# Altium schematic symbol library Schlib2.SchLib: 1 symbol
Pins are listed as number, name and electrical type; pins without a type are passive.

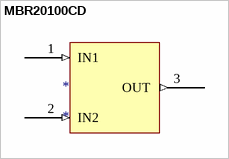
[diagram p0: symbol MBR20100CD]

## MBR20100CD
designator *
footprint SC_TO-252AA (D-PAK)
pins: 1 IN1 (in), 2 IN2 (in), 3 OUT (out)